# EAGLE library part MCP2561FD (library my library)
CAN-FD transceiver
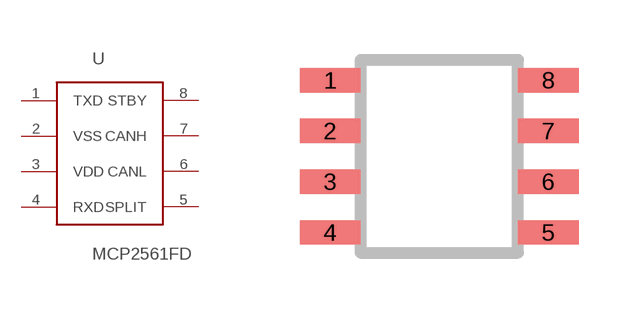
[diagram p6: symbol with the pads of SOIC-8; footprint SOIC-8]

Designator prefix -

## MCP2561FD  [SOIC-8]
1  TXD
2  VSS
3  VDD
4  RXD
5  SPLIT
6  CANL
7  CANH
8  STBY

## Footprint SOIC-8 (pad centres in mm)
smd 1.524 x 0.61: 1 0,3.81; 2 0,2.54; 3 0,1.27; 4 0,0; 5 5.461,0; 6 5.461,1.27; 7 5.461,2.54; 8 5.461,3.81